# Altium footprint library TVI-30-RM6-LP.PcbLib: 12 footprints (part 2 of 2)
Each footprint in its own frame and in the unit in brackets; x right, y up, seen from the top. Pads: shape width x height; smd on the part's side, far side on the other; paste and mask are expansions set on the pad; w line width, h text height; cw(c..) or ccw(c..) is an arc to the next point about the centre after c.
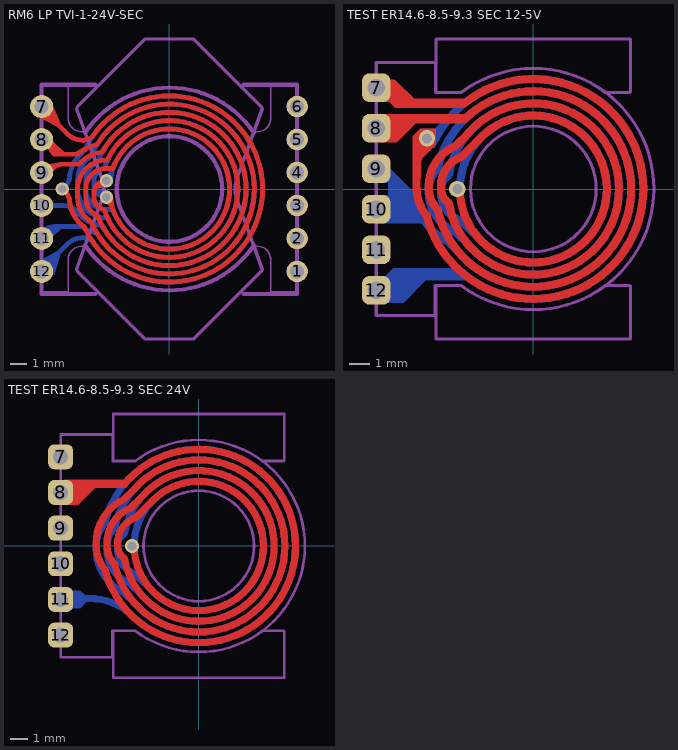
[diagram p1: the footprints below, top view; thin cyan lines are the x and y axes]

## RM6 LP TVI-1-24V-SEC [mm]
pads (12):
  round 1.3 hole 0.85: 1(7.75,-5) 2(7.75,-3) 3(7.75,-1) 4(7.75,1) 5(7.75,3) 6(7.75,5)
  round 1.4 hole 0.85: 7(-7.75,5) 8(-7.75,3) 9(-7.75,1) 10(-7.75,-1) 11(-7.75,-3) 12(-7.75,-5)
via -6.5,0 diameter 0.8 hole 0.5
via -3.825,0.5 diameter 0.8 hole 0.5
via -3.825,-0.5 diameter 0.8 hole 0.5
Top Layer:
  region: -6.835,1.282 -6.8,1.6 -7.773,1.421 -7.773,0.344
  region: -7.142,2.07 -6.225,2.07 -7.215,3.06 -7.461,2.602
  region: -7.8,4.3 -6.619,3.693 -6.619,4 -7.225,5.45
  region: -3.85,-0.9 -3.65,-1.025 -3.35,-1.025 -3.475,-0.3
  region: -4.225,0.525 -4.45,0.165 -4.45,0.008 -3.625,0.15
  lines w0.3: -7.8,4.95 -6.193,3.343 ccw(c-5.254,4.282) -5.254,2.954 -5.179,2.954 cw(c-3.825,0) -4.711,3.127 ; -7.3,0.7 cw(c-6.499,0.7) -6.499,1.501 -5.501,1.501 cw(c-3.825,0) -4.073,2.236 ; -7,2.108 -5.591,2.108 cw(c-3.825,0) -4.392,2.691 ; -6.5,0 -6.269,-0.231 cw(c-6.764,-0.726) -6.064,-0.726 ccw(c-3.825,-0.5) -5.159,-2.312 ; -5.136,-2.355 ccw(c0,0) 5.65,0 ccw(c0,0) 0,5.65 ccw(c0,0) -4.693,3.146 ; -4.78,-1.966 cw(c-3.825,-0.5) -5.575,-0.5 -5.575,0 cw(c-3.825,0) -3.947,1.746 -3.761,1.746 ; -4.744,-2.003 ccw(c0,0) 0,-5.15 ccw(c0,0) 5.15,0 ccw(c0,0) -4.392,2.689 ; -4.365,-1.627 cw(c-3.825,-0.5) -5.075,-0.5 -5.075,0 cw(c-3.825,0) -3.91,1.247 -3.44,1.247 ; -4.357,-1.624 ccw(c0,0) 0,-4.65 ccw(c0,0) 4.65,0 ccw(c0,0) -4.076,2.238 ; -3.997,-1.23 cw(c-3.825,-0.5) -4.575,-0.5 -4.575,-0.25 cw(c-3.825,-0.25) -3.825,0.5 ; -3.959,-1.243 ccw(c0,0) 0,-4.15 ccw(c0,0) 4.15,0 ccw(c0,0) -3.761,1.754 ; -3.584,-0.689 ccw(c0,0) 0,-3.65 ccw(c0,0) 3.65,0 ccw(c0,0) -3.428,1.255
Bottom Layer:
  region: -7.8,-4.3 -6.619,-3.693 -6.619,-4 -7,-5.2
  region: -7.242,-2.236 -6.391,-2.236 -7.215,-3.06 -7.461,-2.602
  region: -3.85,0.9 -3.65,1.025 -3.35,1.025 -3.475,0.3
  region: -4.225,-0.525 -4.45,-0.165 -4.45,-0.008 -3.625,-0.15
  lines w0.3: -7.8,-4.95 -6.193,-3.343 cw(c-5.254,-4.282) -5.254,-2.954 ; -7.75,-5 -7.525,-5 ; -7.75,-3 cw(c-7.038,-3) -7.038,-2.288 -5.35,-2.288 ccw(c-3.825,0) -4.392,-2.691 ; -7.75,-1 -6.47,-1 cw(c-6.47,-2.195) -5.625,-1.35 ccw(c-3.825,0) -4.073,-2.236 ; -6.5,0 -6.269,0.231 ccw(c-6.764,0.726) -6.064,0.726 ; -6.063,0.731 cw(c-3.825,0.5) -5.218,2.267 ; -5.155,-2.965 ccw(c-3.825,0) -4.715,-3.126 ; -5.15,2.323 cw(c0,0) 5.65,0 cw(c0,0) 0,-5.65 cw(c0,0) -4.685,-3.158 ; -4.78,1.966 ccw(c-3.825,0.5) -5.575,0.5 -5.575,0 ccw(c-3.825,0) -3.947,-1.746 -3.761,-1.746 ; -4.744,2.003 cw(c0,0) 0,5.15 cw(c0,0) 5.15,0 cw(c0,0) -4.392,-2.689 ; -4.365,1.627 ccw(c-3.825,0.5) -5.075,0.5 -5.075,0 ccw(c-3.825,0) -3.91,-1.247 -3.44,-1.247 ; -4.357,1.624 cw(c0,0) 0,4.65 cw(c0,0) 4.65,0 cw(c0,0) -4.076,-2.238 ; -3.997,1.23 ccw(c-3.825,0.5) -4.575,0.5 -4.575,0.25 ccw(c-3.825,0.25) -3.825,-0.5 ; -3.959,1.243 cw(c0,0) 0,4.15 cw(c0,0) 4.15,0 cw(c0,0) -3.761,-1.754 ; -3.584,0.689 cw(c0,0) 0,3.65 cw(c0,0) 3.65,0 cw(c0,0) -3.428,-1.255
Mechanical 2:
  circle w0.102: c0,0 r3.275
  lines w0.102: -4.978,-3.556 ccw(c-5.329,-4.289) -6.142,-4.289 -6.142,-6.25 -7.75,-6.25 -7.75,0 -7.75,6.25 -6.142,6.25 -6.142,4.289 ccw(c-5.329,4.289) -4.978,3.556 ; -4.96,-3.543 ccw(c0,0) 4.961,-3.543 ; -4.96,3.543 cw(c0,0) 4.961,3.543 ; 4.978,-3.556 cw(c5.329,-4.289) 6.142,-4.289 6.142,-6.25 7.75,-6.25 7.75,0 7.75,6.25 6.142,6.25 6.142,4.289 cw(c5.329,4.289) 4.978,3.556
Mechanical 13:
  circle w0.254: c0,0 r3.2
  lines w0.2: -1.486,-9.1 1.486,-9.1 ; -1.486,-9.086 -5.577,-4.996 -5.635,-4.871 -4.103,-0.661 ; -1.486,9.086 -5.577,4.996 -5.635,4.871 -4.103,0.661 ; -1.486,9.1 1.486,9.1 ; 1.486,-9.086 5.577,-4.996 ; 1.486,9.086 5.577,4.996 ; -4.103,-0.707 ccw(c-5.982,-0.023) -4.103,0.661 ; -4.103,-0.707 ccw(c-5.982,-0.023) -4.103,0.661 ; -4.103,-0.707 ccw(c-5.982,-0.023) -4.103,0.661 ; -4.103,-0.707 ccw(c-5.982,-0.023) -4.103,0.661 ; -4.103,-0.661 ccw(c-5.982,0.023) -4.103,0.707 ; -4.103,-0.661 ccw(c-5.982,0.023) -4.103,0.707 ; -4.103,-0.661 ccw(c-5.982,0.023) -4.103,0.707 ; -4.103,-0.661 ccw(c-5.982,0.023) -4.103,0.707 ; 4.103,-0.707 cw(c5.982,-0.023) 4.103,0.661 ; 4.103,-0.707 cw(c5.982,-0.023) 4.103,0.661 ; 4.103,-0.707 cw(c5.982,-0.023) 4.103,0.661 ; 4.103,-0.707 cw(c5.982,-0.023) 4.103,0.661 ; 4.103,-0.661 cw(c5.982,0.023) 4.103,0.707 ; 4.103,-0.661 cw(c5.982,0.023) 4.103,0.707 ; 4.103,-0.661 cw(c5.982,0.023) 4.103,0.707 ; 4.103,-0.661 cw(c5.982,0.023) 4.103,0.707 ; 4.103,-0.661 5.635,-4.871 ; 4.103,-0.661 5.49,-4.471 4.103,-0.661 ; 4.103,0.661 5.49,4.471 4.103,0.661 ; 4.103,0.661 5.635,4.871 ; 5.577,-4.996 5.635,-4.871 ; 5.577,-4.996 5.635,-4.871 ; 5.577,4.996 5.635,4.871 ; 5.577,4.996 5.635,4.871
  lines w0.25: -4.5,-6.375 -7.75,-6.375 -7.75,6.323 -4.5,6.323 ; 4.5,-6.375 7.75,-6.375 7.75,6.323 4.5,6.323
  lines w0.254: -5.117,-3.411 ccw(c0,0) 5.117,-3.412 ; -5.117,3.411 cw(c0,0) 5.117,3.412
3D body "User Library-rm_6.step": height 4, standoff -0.5, extent -5.235,-8.9 5.235,9
3D body "User Library-rm_6.step": height 4, standoff -0.5, extent -5.235,-8.9 5.235,9

## TEST ER14.6-8.5-9.3 SEC 12-5V [mm]
pads (6):
  rrect50% 1.4x1.4 hole 0.85: 7(-7.75,5) 8(-7.75,3) 9(-7.75,1) 10(-7.75,-1) 11(-7.75,-3) 12(-7.75,-5)
via -3.75,0 diameter 0.8 hole 0.5
via -5.25,2.5 diameter 0.8 hole 0.5
Top Layer:
  region: -3.304,3.7 -7.55,3.7 -7.7,3.55 -7.7,2.3 -6.75,2.3 -5.8,3.25 -3.35,3.25 -3.304,3.296
  region: -3.427,4 -6.8,4 -7.1,4.3 -7.775,4.3 -7.775,5.4 -6.825,5.4 -5.875,4.45 -3.425,4.45 -3.379,4.404 -3.379,4.048
  region: -5.95,1.05 -5.95,2.6 -5.575,2.975 -4.825,2.975 -4.825,2.175
  lines w0.4: -5.758,0.004 -5.75,0.996 ; -5.75,0.004 ccw(c-3.75,0) -5.272,-1.298 ; -5.75,1 cw(c-3.05,1) -5.428,2.279 ; -5.26,-1.328 ccw(c0,0) 0,-5.425 ccw(c0,0) 5.425,0 ccw(c0,0) -3.422,4.21 ; -5.158,0.008 -5.158,0.166 cw(c-3.058,0.166) -3.863,2.105 ; -5.15,0 ccw(c-3.75,0) -4.727,-1.002 ; -4.715,-1.023 ccw(c0,0) 0,-4.825 ccw(c0,0) 4.825,0 ccw(c0,0) -3.375,3.448 ; -4.186,-0.671 cw(c-3.75,0) -4.55,0 -4.558,0.008 -4.558,0.166 cw(c-3.058,0.166) -3.562,1.579 ; -4.166,-0.703 ccw(c0,0) 0,-4.225 ccw(c0,0) 4.225,0 ccw(c0,0) -3.213,2.743 -3.841,2.116 ; -3.625,0 ccw(c0,0) 0,-3.625 ccw(c0,0) 3.625,0 ccw(c0,0) -2.563,2.563 -3.513,1.613
Bottom Layer:
  region: -5.575,-1.7 -7.7,-1.7 -7.7,-0.3 -7.15,-0.3 -7.15,0.3 -7.7,0.3 -7.7,1 -7.05,1 -5.575,-0.475 -5.225,-1.7
  region: -5.575,2.975 -4.875,2.975 -4.5,3.35 -4.5,2.675 -4.675,2.375 -4.879,2.025 -5.675,2.025 -5.675,2.875
  region: -3.477,-3.9 -6.9,-3.9 -7.3,-4.3 -7.3,-5.6 -6.4,-5.6 -5.3,-4.5 -3.304,-4.5 -3.304,-4.073
  lines w0.4: -5.718,-0.628 ccw(c-3.058,-0.166) -4.186,-2.619 ; -4.793,2.541 cw(c0,0) 0,5.425 cw(c0,0) 5.425,0 cw(c0,0) -3.537,-4.114 ; -4.727,1.002 ccw(c-3.75,0) -5.15,0 -5.158,-0.008 -5.158,-0.166 ccw(c-3.058,-0.166) -3.863,-2.105 ; -4.715,1.023 cw(c0,0) 0,4.825 cw(c0,0) 4.825,0 cw(c0,0) -3.663,-3.14 -4.177,-2.627 ; -4.186,0.671 ccw(c-3.75,0) -4.55,0 -4.558,-0.008 -4.558,-0.166 ccw(c-3.058,-0.166) -3.562,-1.579 ; -4.166,0.703 cw(c0,0) 0,4.225 cw(c0,0) 4.225,0 cw(c0,0) -3.213,-2.744 -3.841,-2.116 ; -3.625,0 cw(c0,0) 0,3.625 cw(c0,0) 3.625,0 cw(c0,0) -2.563,-2.563 -3.513,-1.613
Mechanical 2:
  circle w0.15: c0,0 r3.1
  lines w0.15: -7.75,-6.25 -7.75,0 -7.75,6.25 -4.825,6.25 -4.825,4.76 -3.57,4.76 cw(c0,0) -3.57,-4.76 -4.85,-4.76 -4.85,-6.25 -7.75,-6.25
Mechanical 13:
  circle w0.15: c0,0 r3.1
  lines w0.15: -4.8,-7.4 -4.8,-4.79 -4.77,-4.76 -3.57,-4.76 ccw(c0,0) 3.57,-4.76 4.77,-4.76 4.8,-4.79 4.8,-7.4 -4.8,-7.4 ; -4.8,4.79 -4.77,4.76 -3.57,4.76 cw(c0,0) 3.57,4.76 4.77,4.76 4.8,4.79 4.8,7.4 -4.8,7.4 -4.8,4.79
3D body "ER14.6-8.5-9.3 (1).STEP": height 1.25, standoff -3, extent -4.7,-7.3 4.7,7.3

## TEST ER14.6-8.5-9.3 SEC 24V [mm]
pads (6):
  rrect50% 1.4x1.4 hole 0.85: 7(-7.75,5) 8(-7.75,3) 9(-7.75,1) 10(-7.75,-1) 11(-7.75,-3) 12(-7.75,-5)
via -3.75,0 diameter 0.8 hole 0.5
Top Layer:
  region: -4,3.7 -7.55,3.7 -7.7,3.55 -7.7,2.3 -6.75,2.3 -5.8,3.25 -4.1,3.25 -4,3.35
  lines w0.4: -5.272,-1.297 cw(c-3.75,0) -5.75,0 -5.758,0.008 -5.758,0.166 cw(c-3.058,0.166) -4.186,2.619 ; -5.26,-1.328 ccw(c0,0) 0,-5.425 ccw(c0,0) 5.425,0 ccw(c0,0) -4.168,3.473 ; -4.727,-1.002 cw(c-3.75,0) -5.15,0 -5.158,0.008 -5.158,0.166 cw(c-3.058,0.166) -3.863,2.105 ; -4.715,-1.023 ccw(c0,0) 0,-4.825 ccw(c0,0) 4.825,0 ccw(c0,0) -3.663,3.14 -4.177,2.627 ; -4.186,-0.671 cw(c-3.75,0) -4.55,0 -4.558,0.008 -4.558,0.166 cw(c-3.058,0.166) -3.562,1.579 ; -4.166,-0.703 ccw(c0,0) 0,-4.225 ccw(c0,0) 4.225,0 ccw(c0,0) -3.213,2.743 -3.841,2.116 ; -3.625,0 ccw(c0,0) 0,-3.625 ccw(c0,0) 3.625,0 ccw(c0,0) -2.563,2.563 -3.513,1.613
Bottom Layer:
  region: -6.35,-2.8 -6.35,-3.2 -6.65,-3.5 -7.8,-3.5 -7.8,-2.5 -7.55,-2.5 -6.65,-2.5
  lines w0.4: -7.703,-2.953 -6.101,-2.953 cw(c-6.058,-6.19) -3.836,-3.836 ccw(c0,0) 5.425,0 ccw(c0,0) 0,5.425 ccw(c0,0) -5.26,1.328 ; -5.272,1.297 ccw(c-3.75,0) -5.75,0 -5.758,-0.008 -5.758,-0.166 ccw(c-3.058,-0.166) -4.186,-2.619 ; -4.727,1.002 ccw(c-3.75,0) -5.15,0 -5.158,-0.008 -5.158,-0.166 ccw(c-3.058,-0.166) -3.863,-2.105 ; -4.715,1.023 cw(c0,0) 0,4.825 cw(c0,0) 4.825,0 cw(c0,0) -3.663,-3.14 -4.177,-2.627 ; -4.186,0.671 ccw(c-3.75,0) -4.55,0 -4.558,-0.008 -4.558,-0.166 ccw(c-3.058,-0.166) -3.562,-1.579 ; -4.166,0.703 cw(c0,0) 0,4.225 cw(c0,0) 4.225,0 cw(c0,0) -3.213,-2.743 -3.841,-2.116 ; -3.625,0 cw(c0,0) 0,3.625 cw(c0,0) 3.625,0 cw(c0,0) -2.563,-2.563 -3.513,-1.613
Mechanical 2:
  circle w0.15: c0,0 r3.1
  lines w0.15: -7.75,-6.25 -7.75,0 -7.75,6.25 -4.825,6.25 -4.825,4.76 -3.57,4.76 cw(c0,0) -3.57,-4.76 -4.85,-4.76 -4.85,-6.25 -7.75,-6.25
Mechanical 13:
  circle w0.15: c0,0 r3.1
  lines w0.15: -4.8,-7.4 -4.8,-4.79 -4.77,-4.76 -3.57,-4.76 ccw(c0,0) 3.57,-4.76 4.77,-4.76 4.8,-4.79 4.8,-7.4 -4.8,-7.4 ; -4.8,4.79 -4.77,4.76 -3.57,4.76 cw(c0,0) 3.57,4.76 4.77,4.76 4.8,4.79 4.8,7.4 -4.8,7.4 -4.8,4.79
3D body "ER14.6-8.5-9.3 (1).STEP": height 1.25, standoff -3, extent -4.7,-7.3 4.7,7.3